# Altium footprint library 22_RES_THD_AX14_8mm.PcbLib: 9 footprints
Each footprint in its own frame and in the unit in brackets; x right, y up, seen from the top. Pads: shape width x height; smd on the part's side, far side on the other; paste and mask are expansions set on the pad; w line width, h text height; cw(c..) or ccw(c..) is an arc to the next point about the centre after c.
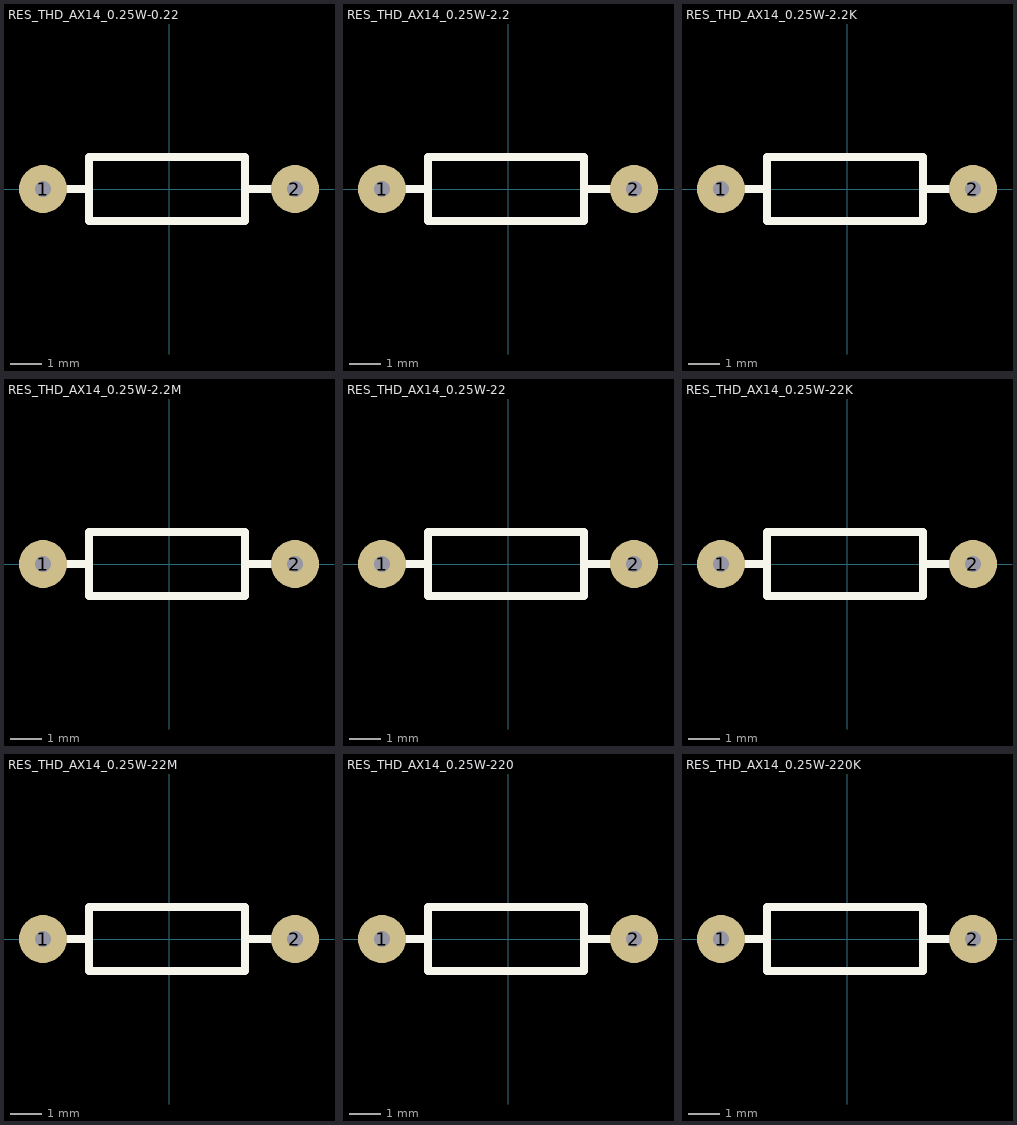
[diagram p0: the footprints below, top view; thin cyan lines are the x and y axes]

## RES_THD_AX14_0.25W-0.22 [mil] "RES_THD_AX14_ 0.25W -0.22 - 8 mm"
pads (2):
  round 60 hole 19.68: 1(-157.48,0) 2(157.48,0)
Top Overlay:
  lines w10: -157.48,0 -100,0 ; 95,0 157.48,0 ; -100,-40 95,-40 95,40 -100,40 -100,-40
3D body "RES_THD_ASR_ASRM_0.22.STEP": height 96.5, standoff -96.46, extent -167.32,-45.33 167.32,45.33

## RES_THD_AX14_0.25W-2.2 [mil] "RES_THD_AX14_ 0.25W - 2.2 - 8 mm"
pads (2):
  round 60 hole 19.68: 1(-157.48,0) 2(157.48,0)
Top Overlay:
  lines w10: -157.48,0 -100,0 ; 95,0 157.48,0 ; -100,-40 -100,40 95,40 95,-40 -100,-40
3D body "RES_THD_ ASR - ASRM Series 2.2.STEP": height 96.5, standoff -96.46, extent -167.32,-45.33 167.32,45.33

## RES_THD_AX14_0.25W-2.2K [mil] "RES_THD_AX14_ 0.25W - 2.2K - 8 mm"
pads (2):
  round 60 hole 19.68: 1(-157.48,0) 2(157.48,0)
Top Overlay:
  lines w10: -157.48,0 -100,0 ; 95,0 157.48,0 ; -100,-40 -100,40 95,40 95,-40 -100,-40
Mechanical 1:
  text "Type" at -170,-113.75 h60
3D body "RES_THD_ASR_ASRM_2.2K.STEP": height 96.5, standoff -96.46, extent -167.32,-45.33 167.32,45.33

## RES_THD_AX14_0.25W-2.2M [mil] "RES_THD_AX14_ 0.25W - 2.2M - 8 mm"
pads (2):
  round 60 hole 19.68: 1(-157.48,0) 2(157.48,0)
Top Overlay:
  lines w10: -157.48,0 -100,0 ; 95,0 157.48,0 ; -100,-40 95,-40 95,40 -100,40 -100,-40
3D body "RES_THD_ASR_ASRM_2.2M.STEP": height 96.5, standoff -96.46, extent -167.32,-45.33 167.32,45.33

## RES_THD_AX14_0.25W-22 [mil] "RES_THD_AX14_ 0.25W - 22 - 8 mm"
pads (2):
  round 60 hole 19.68: 1(-157.48,0) 2(157.48,0)
Top Overlay:
  lines w10: -157.48,0 -100,0 ; 95,0 157.48,0 ; -100,-40 95,-40 95,40 -100,40 -100,-40
3D body "RES_THD_ASR_ASRM_22.STEP": height 96.5, standoff -96.46, extent -167.32,-45.33 167.32,45.33

## RES_THD_AX14_0.25W-22K [mil] "RES_THD_AX14_ 0.25W - 22K - 8 mm"
pads (2):
  round 60 hole 19.68: 1(-157.48,0) 2(157.48,0)
Top Overlay:
  lines w10: -157.48,0 -100,0 ; 95,0 157.48,0 ; -100,-40 -100,40 95,40 95,-40 -100,-40
3D body "RES_THD_ASR_ASRM_22K.STEP": height 96.5, standoff -96.46, extent -167.32,-45.33 167.32,45.33

## RES_THD_AX14_0.25W-22M [mil] "RES_THD_AX14_ 0.25W - 22M - 8 mm"
pads (2):
  round 60 hole 19.68: 1(-157.48,0) 2(157.48,0)
Top Overlay:
  lines w10: -157.48,0 -100,0 ; 95,0 157.48,0 ; -100,-40 -100,40 95,40 95,-40 -100,-40
3D body "RES_THD_ASR_ASRM_22M.STEP": height 96.5, standoff -96.46, extent -167.32,-45.33 167.32,45.33

## RES_THD_AX14_0.25W-220 [mil] "RES_THD_AX14_ 0.25W - 220 - 8 mm"
pads (2):
  round 60 hole 19.68: 1(-157.48,0) 2(157.48,0)
Top Overlay:
  lines w10: -157.48,0 -100,0 ; 95,0 157.48,0 ; -100,-40 -100,40 95,40 95,-40 -100,-40
3D body "RES_THD_ASR_ASRM_220.STEP": height 96.5, standoff -96.46, extent -167.32,-45.33 167.32,45.33

## RES_THD_AX14_0.25W-220K [mil] "RES_THD_AX14_ 0.25W - 220K - 8 mm"
pads (2):
  round 60 hole 19.68: 1(-157.48,0) 2(157.48,0)
Top Overlay:
  lines w10: -157.48,0 -100,0 ; 95,0 157.48,0 ; -100,-40 95,-40 95,40 -100,40 -100,-40
3D body "RES_THD_ASR_ASRM_220K.STEP": height 96.5, standoff -96.46, extent -167.32,-45.33 167.32,45.33